# EAGLE library part 74HC74D,652 (library 74HC74)
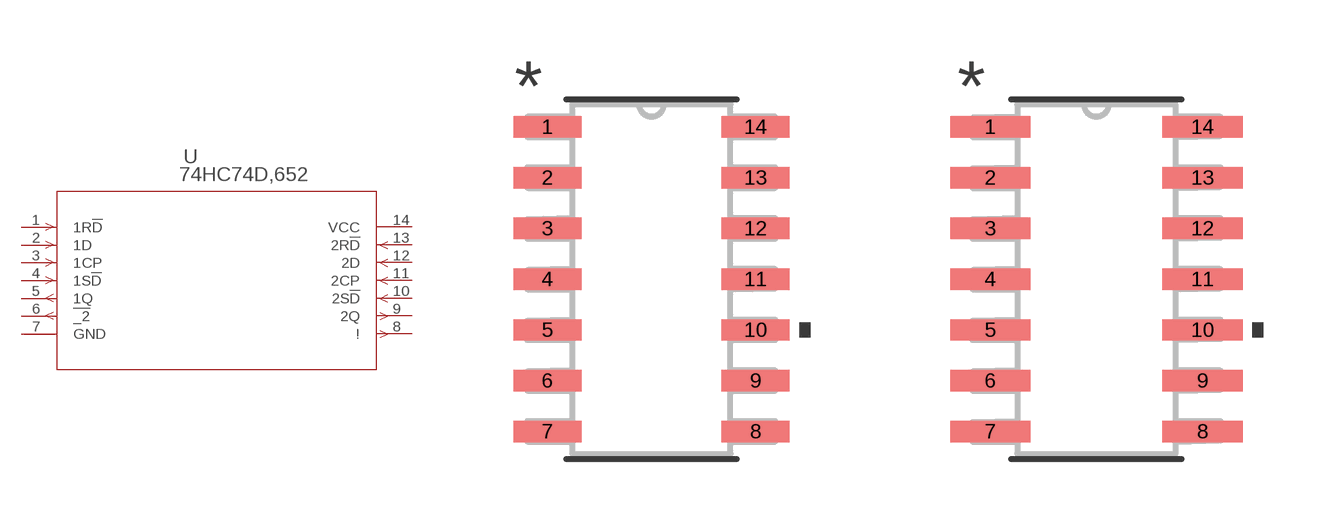
[diagram p0: symbol with the pads of SOT108-1_NEX; footprints SOT108-1_NEX, SOT108-1_NEX-M]

Designator prefix U

## 74HC74D,652 (COPYRIGHT: Copyright (C) 2016 Accelerated Designs. All rights reserved; MANUFACTURER_PART_NUMBER: 74HC74D,652; SOURCELIBRARY: Nexperia_2018-05-2018; VENDOR: Nexperia)  [SOT108-1_NEX]
1  1R!D  in
2  1D  in
3  1CP  in
4  1S!D  in
5  1Q  out
6  !_2  out
7  GND  pwr
8  !  out
9  2Q  out
10  2S!D  in
11  2CP  in
12  2D  in
13  2R!D  in
14  VCC  pwr

## 74HC74D,652SOT108-1_NEX-M (COPYRIGHT: Copyright (C) 2016 Accelerated Designs. All rights reserved; MANUFACTURER_PART_NUMBER: 74HC74D,652; SOURCELIBRARY: Nexperia_2018-05-2018; VENDOR: Nexperia)  [SOT108-1_NEX-M]
Pads as for SOT108-1_NEX

## 74HC74D,652SOT108-1_NEX-L (COPYRIGHT: Copyright (C) 2016 Accelerated Designs. All rights reserved; MANUFACTURER_PART_NUMBER: 74HC74D,652; SOURCELIBRARY: Nexperia_2018-05-2018; VENDOR: Nexperia)  [SOT108-1_NEX-L]
Pads as for SOT108-1_NEX

## Footprint SOT108-1_NEX (pad centres in mm)
smd 1.702 x 0.533: 1 -2.603,3.81; 2 -2.603,2.54; 3 -2.603,1.27; 4 -2.603,0; 5 -2.603,-1.27; 6 -2.603,-2.54; 7 -2.603,-3.81; 8 2.603,-3.81; 9 2.603,-2.54; 10 2.603,-1.27; 11 2.603,0; 12 2.603,1.27; 13 2.603,2.54; 14 2.603,3.81

## Footprint SOT108-1_NEX-M (pad centres in mm)
smd 2.007 x 0.533: 1 -2.654,3.81; 2 -2.654,2.54; 3 -2.654,1.27; 4 -2.654,0; 5 -2.654,-1.27; 6 -2.654,-2.54; 7 -2.654,-3.81; 8 2.654,-3.81; 9 2.654,-2.54; 10 2.654,-1.27; 11 2.654,0; 12 2.654,1.27; 13 2.654,2.54; 14 2.654,3.81

## Footprint SOT108-1_NEX-L (pad centres in mm)
smd 1.397 x 0.483: 1 -2.553,3.81; 2 -2.553,2.54; 3 -2.553,1.27; 4 -2.553,0; 5 -2.553,-1.27; 6 -2.553,-2.54; 7 -2.553,-3.81; 8 2.553,-3.81; 9 2.553,-2.54; 10 2.553,-1.27; 11 2.553,0; 12 2.553,1.27; 13 2.553,2.54; 14 2.553,3.81